# Altium footprint library LCD_LCD_1602_2X16_BLUE-WHITE.PcbLib: 1 footprints
Each footprint in its own frame and in the unit in brackets; x right, y up, seen from the top. Pads: shape width x height; smd on the part's side, far side on the other; paste and mask are expansions set on the pad; w line width, h text height; cw(c..) or ccw(c..) is an arc to the next point about the centre after c.
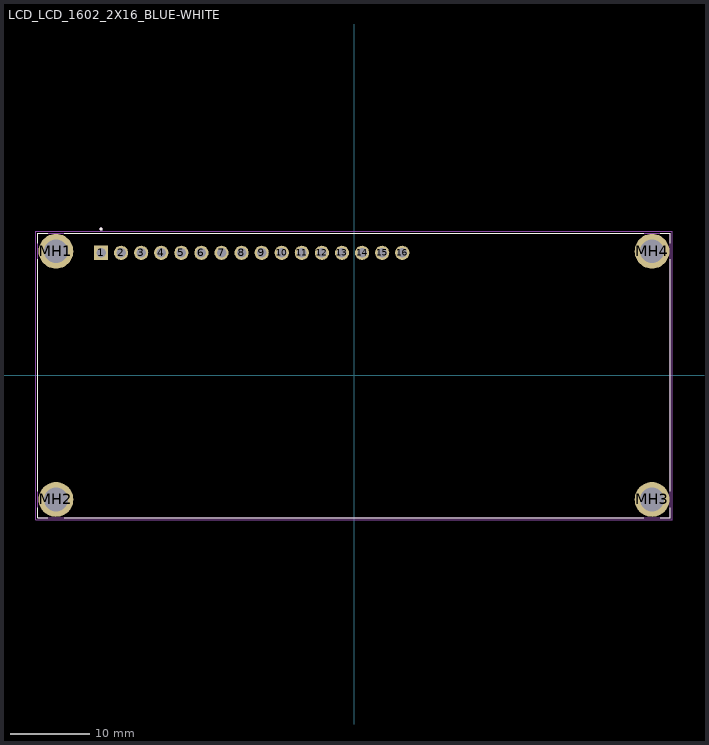
[diagram p0: the footprint, top view; thin cyan lines are the x and y axes]

## LCD_LCD_1602_2X16_BLUE-WHITE [mm]
height 11.2
pads (20):
  rect 1.8x1.8 / inner round 1.8 / far side rect 1.8x1.8 hole 1.2 mask+0.102: 1(-32,15.5)
  round 1.8 hole 1.2 mask+0.102: 2(-29.46,15.5) 3(-26.92,15.5) 4(-24.38,15.5) 5(-21.84,15.5) 6(-19.3,15.5) 7(-16.76,15.5) 8(-14.22,15.5) 9(-11.68,15.5) 10(-9.14,15.5) 11(-6.6,15.5) 12(-4.06,15.5) 13(-1.52,15.5) 14(1.02,15.5) 15(3.56,15.5) 16(6.1,15.5)
  round 4.4 hole 3 mask+0.102: MH1(-37.7,15.7) MH2(-37.7,-15.7) MH3(37.7,-15.7) MH4(37.7,15.7)
Top Overlay:
  circle w0.2: c-32,18.5 r0.1
  lines w0.127: -40,-16.73 -40,-18 -38.73,-18 ; -40,-14.67 -40,14.67 ; -40,16.73 -40,18 -38.73,18 ; -36.67,-18 36.67,-18 ; -36.67,18 36.67,18 ; 38.73,-18 40,-18 40,-16.73 ; 38.73,18 40,18 40,16.73 ; 40,-14.67 40,14.67
Assembly Top:
  circle w0.2: c-32,18.5 r0.1
  lines w0.127: -40,-18 -40,18 40,18 40,-18 -40,-18
Courtyard Top:
  lines w0.05: -40.25,-18.25 -40.25,18.25 40.25,18.25 40.25,-18.25 -40.25,-18.25
3D body "step_temp.STEP": height 11, standoff 0, extent -40,-18 40,18